# Altium footprint library UC-PCB.PcbLib: 145 footprints (part 9 of 10)
Each footprint in its own frame and in the unit in brackets; x right, y up, seen from the top. Pads: shape width x height; smd on the part's side, far side on the other; paste and mask are expansions set on the pad; w line width, h text height; cw(c..) or ccw(c..) is an arc to the next point about the centre after c.
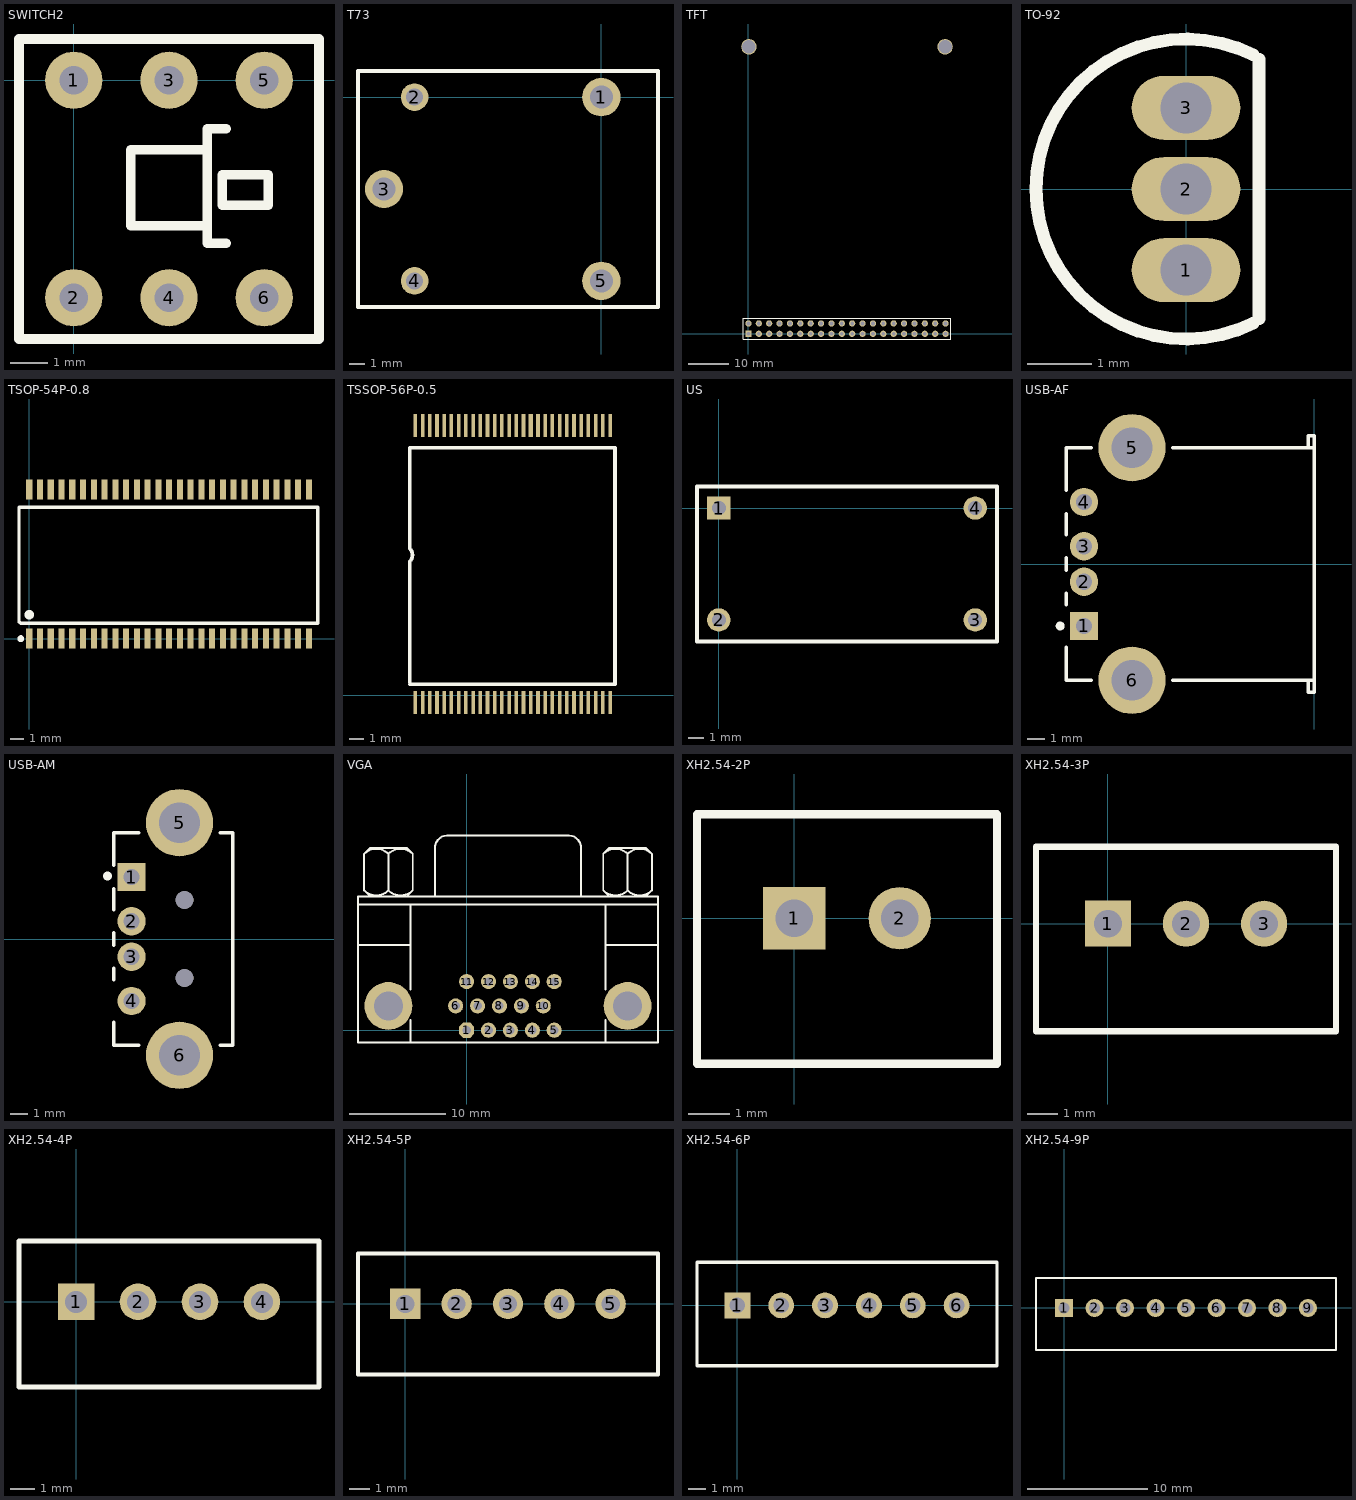
[diagram p8: the footprints below, top view; thin cyan lines are the x and y axes]

## SWITCH2 [mil]
pads (6):
  round 60 hole 30: 1(0,0) 2(0,-228.35) 3(100,0) 4(100,-228.35) 5(200,0) 6(200,-228.35)
Top Overlay:
  lines w10: 140,-153 60,-153 60,-73 140,-73 ; 160,-171 140,-171 140,-51 160,-51 ; -57.48,-271.65 -57.48,43.31 257.48,43.31 257.48,-271.65 -57.48,-271.65 ; 156,-131 156,-99 204,-99 204,-131 156,-131

## T73 [mm]
pads (5):
  round 2.5 hole 1.5: 1(0,0) 3(-14.2,-6) 5(0,-12)
  round 1.8 hole 1.1: 2(-12.2,0) 4(-12.2,-12)
Top Overlay:
  lines w0.254: -15.9,-13.7 3.7,-13.7 3.7,1.7 -15.9,1.7 -15.9,-13.7

## TFT [mil]
pads (42):
  rect 60x60 hole 35.4: 1(0,0)
  round 60 hole 35.4: 2(0,100) 3(100,0) 4(100,100) 5(200,0) 6(200,100) 7(300,0) 8(300,100) 9(400,0) 10(400,100) 11(500,0) 12(500,100) 13(600,0) 14(600,100) 15(700,0) 16(700,100) 17(800,0) 18(800,100) 19(900,0) 20(900,100) 21(1000,0) 22(1000,100) 23(1100,0) 24(1100,100) 25(1200,0) 26(1200,100) 27(1300,0) 28(1300,100) 29(1400,0) 30(1400,100) 31(1500,0) 32(1500,100) 33(1600,0) 34(1600,100) 35(1700,0) 36(1700,100) 37(1800,0) 38(1800,100) 39(1900,0) 40(1900,100)
  round 150 hole 130: ""(5.12,2766.54) ""(1894.88,2766.54)
Top Overlay:
  lines w10: -50,-50 -50,150 1950,150 1950,-50 -50,-50

## TO-92 [mm]
height 8.97
pads (3):
  oval 1.7x1 hole 0.8: 1(0,-1.27) 2(0,0) 3(0,1.27)
Top Overlay:
  lines w0.2: 1.05,-2.099 cw(c0,0) 1.05,2.099 ; 1.143,-2.032 1.143,2.032

## TSOP-54P-0.8 [mm]
pads (54):
  rect 0.45x1.5 smd: 1(0.003,0.003) 2(0.803,0.003) 3(1.603,0.003) 4(2.403,0.003) 5(3.203,0.003) 6(4.003,0.003) 7(4.803,0.003) 8(5.603,0.003) 9(6.403,0.003) 10(7.203,0.003) 11(8.003,0.003) 12(8.803,0.003) 13(9.603,0.003) 14(10.403,0.003) 15(11.203,0.003) 16(12.003,0.003) 17(12.803,0.003) 18(13.603,0.003) 19(14.403,0.003) 20(15.203,0.003) 21(16.003,0.003) 22(16.803,0.003) 23(17.603,0.003) 24(18.403,0.003) 25(19.203,0.003) 26(20.003,0.003) 27(20.803,0.003) 28(20.803,11.103) 29(20.003,11.103) 30(19.203,11.103) 31(18.403,11.103) 32(17.603,11.103) 33(16.803,11.103) 34(16.003,11.103) 35(15.203,11.103) 36(14.403,11.103) 37(13.603,11.103) 38(12.803,11.103) 39(12.003,11.103) 40(11.203,11.103) 41(10.403,11.103) 42(9.603,11.103) 43(8.803,11.103) 44(8.003,11.103) 45(7.203,11.103) 46(6.403,11.103) 47(5.603,11.103) 48(4.803,11.103) 49(4.003,11.103) 50(3.203,11.103) 51(2.403,11.103) 52(1.603,11.103) 53(0.803,11.103) 54(0.003,11.103)
Top Overlay:
  circle w0.254: c-0.632,0.003 r0.127
  circle w0.356: c0.003,1.781 r0.18
  lines w0.254: -0.759,1.273 -0.632,1.146 21.466,1.146 21.466,9.782 -0.759,9.782 -0.759,1.273

## TSSOP-56P-0.5 [mm]
pads (56):
  rect 0.25x1.6 smd: 1(19.431,-0.508) 2(19.931,-0.508) 3(20.431,-0.508) 4(20.931,-0.508) 5(21.431,-0.508) 6(21.931,-0.508) 7(22.431,-0.508) 8(22.931,-0.508) 9(23.431,-0.508) 10(23.931,-0.508) 11(24.431,-0.508) 12(24.931,-0.508) 13(25.431,-0.508) 14(25.931,-0.508) 15(26.431,-0.508) 16(26.931,-0.508) 17(27.431,-0.508) 18(27.931,-0.508) 19(28.431,-0.508) 20(28.931,-0.508) 21(29.431,-0.508) 22(29.931,-0.508) 23(30.431,-0.508) 24(30.931,-0.508) 25(31.431,-0.508) 26(31.931,-0.508) 27(32.431,-0.508) 28(32.931,-0.508) 29(32.931,18.692) 30(32.431,18.692) 31(31.931,18.692) 32(31.431,18.692) 33(30.931,18.692) 34(30.431,18.692) 35(29.931,18.692) 36(29.431,18.692) 37(28.931,18.692) 38(28.431,18.692) 39(27.931,18.692) 41(26.931,18.692) 42(26.431,18.692) 43(25.931,18.692) 44(25.431,18.692) 45(24.931,18.692) 46(24.431,18.692) 47(23.931,18.692) 48(23.431,18.692) 49(22.931,18.692) 50(22.431,18.692) 51(21.931,18.692) 52(21.431,18.692) 53(20.931,18.692) 54(20.431,18.692) 55(19.931,18.692) 56(19.431,18.692)
  rect 0.3x1.6 smd: 40(27.431,18.692)
Top Overlay:
  lines w0.254: 19.05,0.762 33.274,0.762 33.274,17.145 19.05,17.145 19.05,10.16 cw(c18.605,9.716) 19.05,9.271 19.05,8.255 19.05,6.858 19.05,0.889

## US [mm]
pads (4):
  rect 1.5x1.5 hole 0.9: 1(0,0)
  round 1.5 hole 0.9: 2(0,-7.2) 3(16.5,-7.2) 4(16.5,0)
Top Overlay:
  lines w0.254: -1.4,-8.6 17.9,-8.6 17.9,1.4 -1.4,1.4 -1.4,-8.6

## USB-AF [mm]
height 7.01
pads (6):
  rect 1.6x1.6 hole 0.92: 1(-12.99,-3.5)
  round 1.6 hole 0.92: 2(-12.99,-1) 3(-12.99,1) 4(-12.99,3.5)
  round 3.8 hole 2.3: 5(-10.28,6.57) 6(-10.28,-6.57)
Top Overlay:
  circle w0.25: c-14.34,-3.5 r0.125
  lines w0.2: -14,-4.7 -14,-6.565 -12.58,-6.565 ; -14,-2.3 -14,-1.66 ; -14,-0.34 -14,0.34 ; -14,1.66 -14,2.84 ; -14,4.16 -14,6.565 -12.58,6.565 ; -7.98,-6.565 0,-6.565 ; -7.98,6.565 0,6.565 ; -0.32,-6.565 -0.32,-7.25 0,-7.25 0,-6.565 ; -0.32,6.565 -0.32,7.25 0,7.25 0,6.565 ; 0,-6.565 0,6.565

## USB-AM [mm]
height 7.01
pads (8):
  rect 1.6x1.6 hole 0.92: 1(-12.99,3.5)
  round 1.6 hole 0.92: 2(-12.99,1) 3(-12.99,-1) 4(-12.99,-3.5)
  round 3.8 hole 2.3: 5(-10.28,6.57) 6(-10.28,-6.57)
  round 1 hole 1: ""(-10,-2.2) ""(-10,2.2)
Top Overlay:
  circle w0.25: c-14.349,3.556 r0.125
  lines w0.2: -14,-4.7 -14,-6 -12.58,-6 ; -14,-2.3 -14,-1.66 ; -14,-0.34 -14,0.34 ; -14,1.66 -14,2.84 ; -14,4.16 -14,6 -12.58,6 ; -7.98,-6 -7.29,-6 ; -7.98,6 -7.29,6 ; -7.28,-6 -7.28,6

## VGA [mil]
pads (17):
  oct 62x62 hole 35: 1(0,0)
  round 62 hole 35: 2(90,0) 3(180,0) 4(270,0) 5(360,0) 6(-45,100) 7(45,100) 8(135,100) 9(225,100) 10(315,100) 11(0,200) 12(90,200) 13(180,200) 14(270,200) 15(360,200)
  round 196.67 hole 118.33: ""(-321.67,100) ""(661.67,100)
Top Overlay:
  lines w8: -446.67,350 -230,350 ; -446.67,516.67 786.67,516.67 ; -421.75,574.91 ccw(c-371.67,625) -321.58,574.91 ; -421.75,725.09 cw(c-371.67,675) -321.58,725.09 ; -396.67,550 -421.67,575 -421.67,725 -396.67,750 -246.67,750 -221.67,725 -221.67,575 -246.67,550 ; -321.75,574.91 ccw(c-271.67,625) -221.58,574.91 ; -321.75,725.09 cw(c-271.67,675) -221.58,725.09 ; -321.67,575 -321.67,725 ; -230,-50 -230,41.67 ; -230,166.67 -230,350 ; -230,516.67 -230,350 ; -130,550 -130,750 cw(c-80,750) -80,800 420,800 cw(c420,750) 470,750 470,550 ; 561.58,574.91 ccw(c611.67,625) 661.75,574.91 ; 561.58,725.09 cw(c611.67,675) 661.75,725.09 ; 570,-50 570,41.67 ; 570,166.67 570,350 ; 570,516.67 570,350 ; 586.67,550 561.67,575 561.67,725 586.67,750 736.67,750 761.67,725 761.67,575 736.67,550 ; 661.58,574.91 ccw(c711.67,625) 761.75,574.91 ; 661.58,725.09 cw(c711.67,675) 761.75,725.09 ; 661.67,575 661.67,725 ; 786.67,350 570,350 ; -446.67,-50 786.67,-50 786.67,550 -446.67,550 -446.67,-50

## XH2.54-2P [mm]
pads (2):
  rect 1.5x1.5 hole 0.9: 1(0,0)
  round 1.5 hole 0.9: 2(2.54,0)
Top Overlay:
  lines w0.2: -2.34,-3.5 4.88,-3.5 4.88,2.5 -2.34,2.5 -2.34,-3.5

## XH2.54-3P [mm]
pads (3):
  rect 1.5x1.5 hole 0.9: 1(0,0)
  round 1.5 hole 0.9: 2(2.54,0) 3(5.08,0)
Top Overlay:
  lines w0.2: -2.34,-3.5 7.42,-3.5 7.42,2.5 -2.34,2.5 -2.34,-3.5

## XH2.54-4P [mm]
pads (4):
  rect 1.5x1.5 hole 0.9: 1(0,0)
  round 1.5 hole 0.9: 2(2.54,0) 3(5.08,0) 4(7.62,0)
Top Overlay:
  lines w0.2: -2.34,-3.5 9.96,-3.5 9.96,2.5 -2.34,2.5 -2.34,-3.5

## XH2.54-5P [mm]
pads (5):
  rect 1.5x1.5 hole 0.9: 1(0,0)
  round 1.5 hole 0.9: 2(2.54,0) 3(5.08,0) 4(7.62,0) 5(10.16,0)
Top Overlay:
  lines w0.2: -2.34,-3.5 -2.34,2.5 12.5,2.5 12.5,-3.5 -2.34,-3.5

## XH2.54-6P [mm]
pads (6):
  rect 1.5x1.5 hole 0.9: 1(0,0)
  round 1.5 hole 0.9: 2(2.54,0) 3(5.08,0) 4(7.62,0) 5(10.16,0) 6(12.7,0)
Top Overlay:
  lines w0.2: -2.34,-3.5 -2.34,2.5 15.04,2.5 15.04,-3.5 -2.34,-3.5

## XH2.54-9P [mm]
pads (9):
  rect 1.5x1.5 hole 0.9: 1(0,0)
  round 1.5 hole 0.9: 2(2.54,0) 3(5.08,0) 4(7.62,0) 5(10.16,0) 6(12.7,0) 7(15.24,0) 8(17.78,0) 9(20.32,0)
Top Overlay:
  lines w0.2: -2.34,-3.5 -2.34,2.5 22.66,2.5 22.66,-3.5 -2.34,-3.5